# EAGLE library part DIL10 (library ic-package)
Dual In Line / Socket
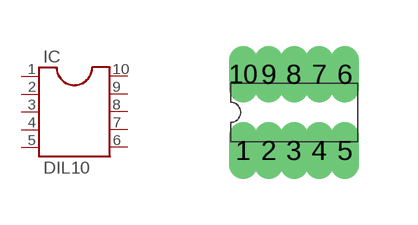
[diagram p2: symbol with the pads of DIL10; footprint DIL10]

Designator prefix IC

## DIL10  [DIL10]
1  1  pas
2  2  pas
3  3  pas
4  4  pas
5  5  pas
6  6  pas
7  7  pas
8  8  pas
9  9  pas
10  10  pas

## Footprint DIL10 (pad centres in mm)
Dual In Line Package
drill 0.203 long: 1 -1.27,-0.953; 2 -0.635,-0.953; 3 0,-0.953; 4 0.635,-0.953; 5 1.27,-0.953; 6 1.27,0.953; 7 0.635,0.953; 8 0,0.953; 9 -0.635,0.953; 10 -1.27,0.953